# EAGLE library part SBH11-NBPC-D25-SM-BK (library CONNECTORs)
Connector Header Surface Mount 50 position 0.100" (2.54mm)
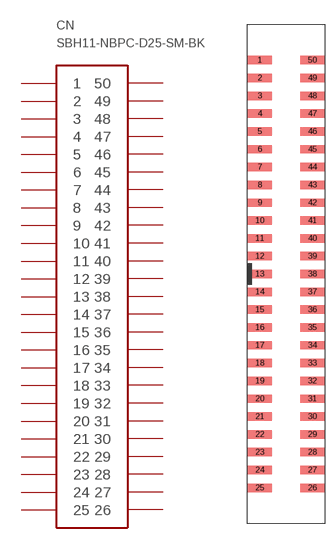
[diagram p82: symbol with the pads of SBH11-NBPC-D25-SM-BK; footprint SBH11-NBPC-D25-SM-BK]

Designator prefix CN

## SBH11-NBPC-D25-SM-BK (DIGIKEY: S9193-ND; HEIGHT: 9.1; PRICE_PER: 1.56; VALUE: 50 PIN)  [SBH11-NBPC-D25-SM-BK]
1  1
2  2
3  3
4  4
5  5
6  6
7  7
8  8
9  9
10  10
11  11
12  12
13  13
14  14
15  15
16  16
17  17
18  18
19  19
20  20
21  21
22  22
23  23
24  24
25  25
26  26
27  27
28  28
29  29
30  30
31  31
32  32
33  33
34  34
35  35
36  36
37  37
38  38
39  39
40  40
41  41
42  42
43  43
44  44
45  45
46  46
47  47
48  48
49  49
50  50

## Footprint SBH11-NBPC-D25-SM-BK (pad centres in mm)
smd 3.5 x 1.2: 1 -3.75,30.48; 2 -3.75,27.94; 3 -3.75,25.4; 4 -3.75,22.86; 5 -3.75,20.32; 6 -3.75,17.78; 7 -3.75,15.24; 8 -3.75,12.7; 9 -3.75,10.16; 10 -3.75,7.62; 11 -3.75,5.08; 12 -3.75,2.54; 13 -3.75,0; 14 -3.75,-2.54; 15 -3.75,-5.08; 16 -3.75,-7.62; 17 -3.75,-10.16; 18 -3.75,-12.7; 19 -3.75,-15.24; 20 -3.75,-17.78; 21 -3.75,-20.32; 22 -3.75,-22.86; 23 -3.75,-25.4; 24 -3.75,-27.94; 25 -3.75,-30.48; 26 3.75,-30.48; 27 3.75,-27.94; 28 3.75,-25.4; 29 3.75,-22.86; 30 3.75,-20.32; 31 3.75,-17.78; 32 3.75,-15.24; 33 3.75,-12.7; 34 3.75,-10.16; 35 3.75,-7.62; 36 3.75,-5.08; 37 3.75,-2.54; 38 3.75,0; 39 3.75,2.54; 40 3.75,5.08; 41 3.75,7.62; 42 3.75,10.16; 43 3.75,12.7; 44 3.75,15.24; 45 3.75,17.78; 46 3.75,20.32; 47 3.75,22.86; 48 3.75,25.4; 49 3.75,27.94; 50 3.75,30.48